# Altium schematic symbol library SD_Holder-MSD-11-A.SchLib: 1 symbol
Pins are listed as number, name and electrical type; pins without a type are passive.

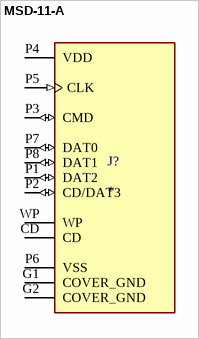
[diagram p0: symbol MSD-11-A]

## MSD-11-A
designator J?
Micro SD Card Connector, 8 Positions, Connector and Ejector, Push In, Auto Eject Out, Surface Mount, 1.85 mm Heaight Above Board, Gold Flash; MF: Same Sky; MP: MSD-11-A; SnapEDA_Link: https://www.snapeda.com/parts/MSD-11-A/Same+Sky/view-part/?ref=snap; Package: None; Value: *; Check_prices: https://www.snapeda.com/parts/MSD-11-A/Same+Sky/view-part/?ref=eda
footprint CUI_MSD-11-A
pins: CD, G1 COVER_GND (power), G2 COVER_GND (power), P1 DAT2 (io), P2 CD/DAT3 (io), P3 CMD (io), P4 VDD (power), P5 CLK (in), P6 VSS (power), P7 DAT0 (io), P8 DAT1 (io), WP